# Altium schematic symbol library Schlib1.SchLib: 79 symbols (part 2 of 3)
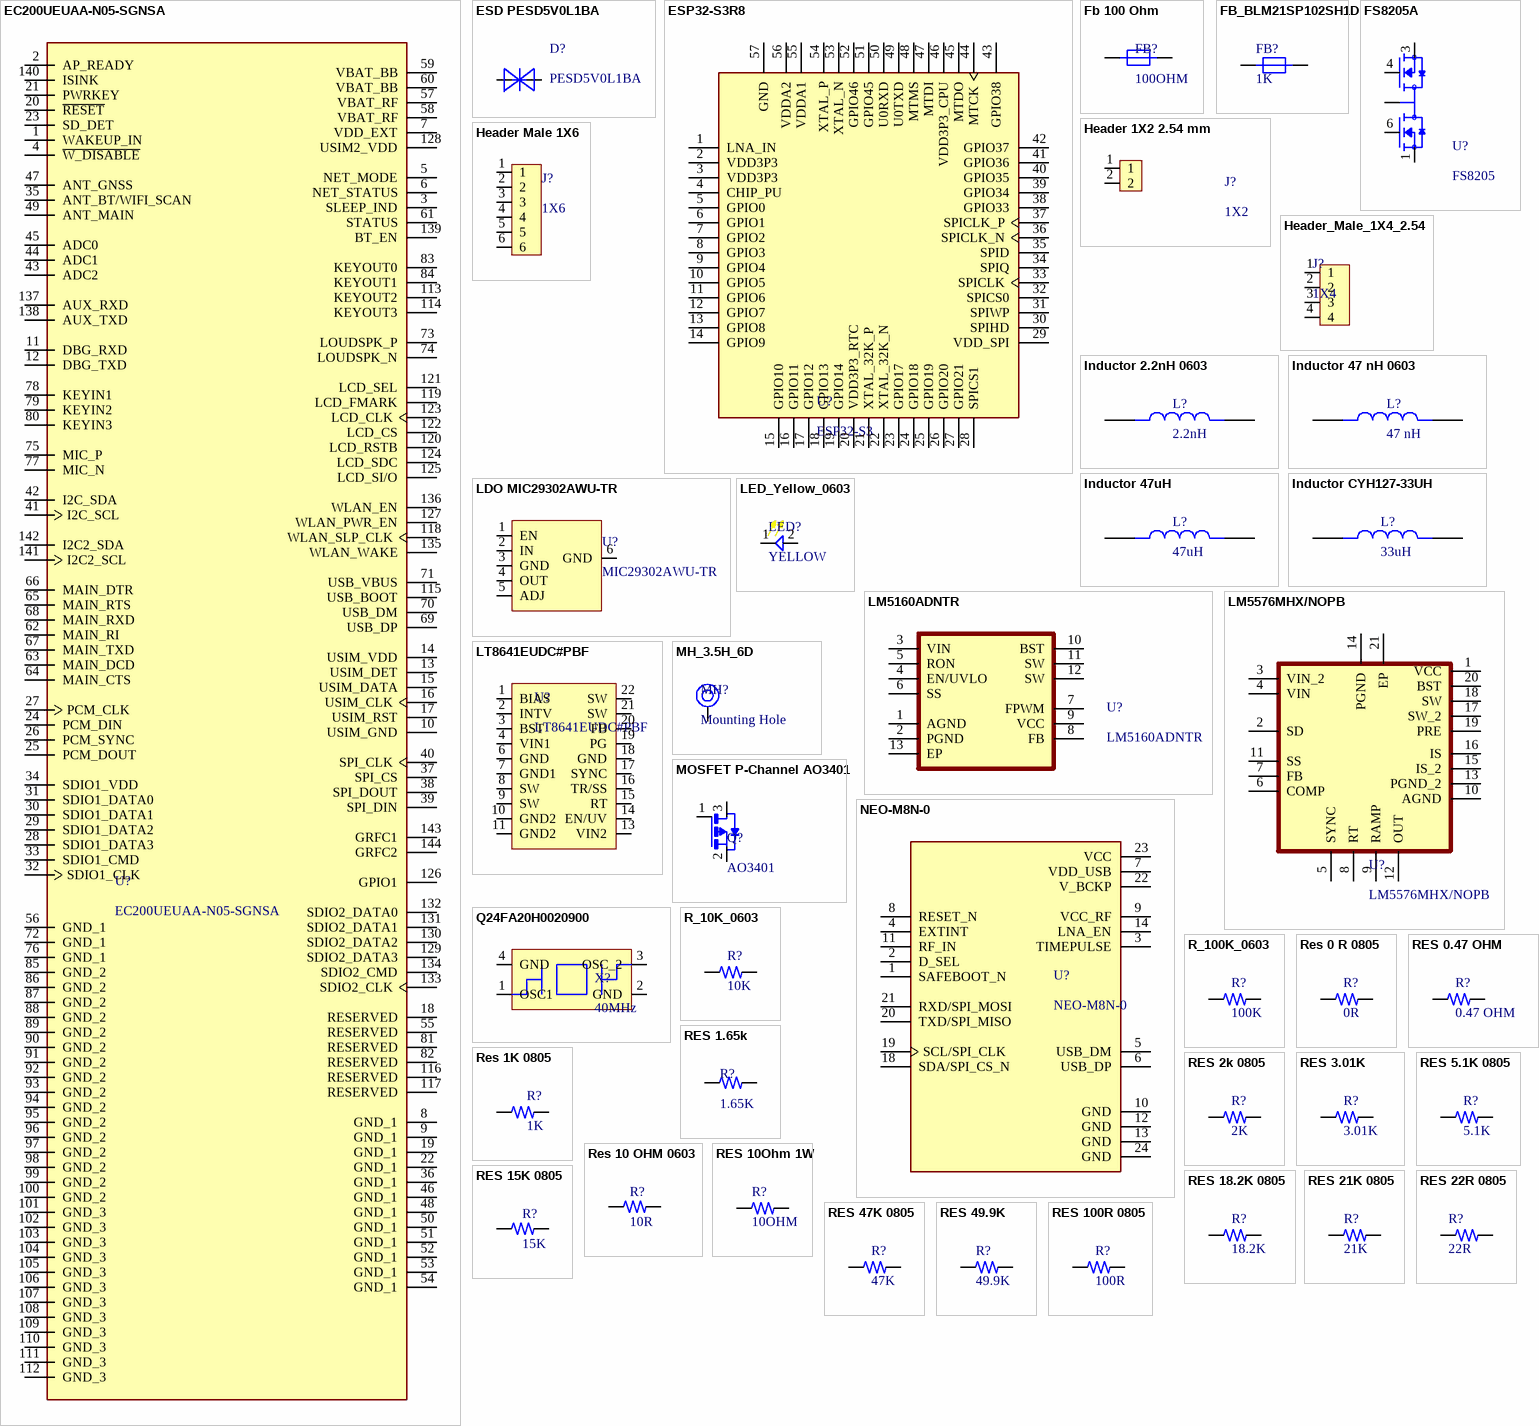
[diagram p3: symbols EC200UEUAA-N05-SGNSA to RES 100R 0805]

## LDO MIC29302AWU-TR
designator U?, comment MIC29302AWU-TR
IC REG LDO ADJ 3A TO263-5; Manufacturer: Microchip; Supplier: Farnell; Supplier Part Number: 2851564RL; Manufacturer Part Number: MIC29302AWU-TR; RoHS: Yes; Category: Voltage Regulators - Linear; Stock: 814; Pricing: 100=1,91, 750=1,87 (EUR); ComponentLink1URL: https://datasheet.ciiva.com/13026/mic29150-13026090.pdf?src-supplier=Mouser; ComponentLink1Description: https://datasheet.ciiva.com/13026/mic29150-13026090.pdf?src-supplier=Mouser; ComponentLink2URL: https://datasheet.ciiva.com/16467/mic29302a-16467068.pdf?src-supplier=Future+Electronics; ComponentLink2Description: https://datasheet.ciiva.com/16467/mic29302a-16467068.pdf?src-supplier=Future+Electronics; ComponentLink3URL: https://datasheet.ciiva.com/2054/mic29302a-2054246.pdf?src-supplier=Digikey; ComponentLink3Description: https://datasheet.ciiva.com/2054/mic29302a-2054246.pdf?src-supplier=Digikey; ComponentLink4URL: https://datasheet.ciiva.com/2054/mic29302a-2054247.pdf?src-supplier=Digikey; ComponentLink4Description: https://datasheet.ciiva.com/2054/mic29302a-2054247.pdf?src-supplier=Digikey; ComponentLink5URL: https://datasheet.ciiva.com/2054/mic29302a-2054248.pdf?src-supplier=Digikey; ComponentLink5Description: https://datasheet.ciiva.com/2054/mic29302a-2054248.pdf?src-supplier=Digikey
footprint TO-263-5
pins: 1 EN, 2 IN, 3 GND, 4 OUT, 5 ADJ, 6 GND

## LED_Yellow_0603
designator LED?, comment YELLOW
TJ-S1608SW6TGLCCW-A5; Manufacturer: Togialed; Supplier: LCSC; Supplier Part Number: C192669; Manufacturer Part Number: TJ-S1608SW6TGLCCW-A5; RoHS: No; Stock: 15460; Pricing: 10=0,0384, 100=0,0311, 300=0,0275, 1000=0,0248, 4000=0,0209, 8000=0,0198 (USD)
footprint LED_YELLOW_0603
pins: 1, 2

## LM5160ADNTR
designator U?
IC REG BCK FLYBCK ISO ADJ 12WSON; Manufacturer: Texas Instruments; Supplier: Mouser; Supplier Part Number: 595-LM5160ADNTR; Manufacturer Part Number: LM5160ADNTR; RoHS: Yes; Category: Voltage Regulators - Switching; Stock: 978; Pricing: 1=2,78, 10=2,08, 50=1,9, 100=1,71, 1000=1,5, 10000=1,35 (USD); ComponentLink1URL: http://www.ti.com/lit/ds/symlink/lm5160a.pdf?src-supplier=Digikey; ComponentLink1Description: http://www.ti.com/lit/ds/symlink/lm5160a.pdf?src-supplier=Digikey; ComponentLink2URL: http://www.ti.com/general/docs/suppproductinfo.tsp?distId=10&amp;gotoUrl=http%3A%2F%2Fwww.ti.com%2Flit%2Fgpn%2Flm5160a&src-supplier=Digikey; ComponentLink2Description: http://www.ti.com/general/docs/suppproductinfo.tsp?distId=10&amp;gotoUrl=http%3A%2F%2Fwww.ti.com%2Flit%2Fgpn%2Flm5160a&src-supplier=Digikey
footprint WSON-12
pins: 1 AGND, 2 PGND, 3 VIN, 4 EN/UVLO, 5 RON, 6 SS, 7 FPWM, 8 FB, 9 VCC, 10 BST, 11 SW, 12 SW, 13 EP

## LM5576MHX/NOPB
designator U?
Buck Switching Regulator IC Positive Adjustable 1.225V 1 Output 3A 20-TSSOP (0.173; Manufacturer: TI National Semiconductor; Supplier: Mouser; Supplier Part Number: 926-LM5576MHX/NOPB; Manufacturer Part Number: LM5576MHX/NOPB; RoHS: Yes; Category: Voltage Regulators - Switching; Stock: 3580; Pricing: 1=3,93, 10=2,97, 50=2,73, 100=2,47, 1000=2,04, 10000=1,95 (USD); ComponentLink1URL: https://datasheet.ciiva.com/41458/001014185-da-01-en-ic-reg-buck-lm5576mhx-nopb-tssop-20-tid-41458496.pdf?src-supplier=Conrad; ComponentLink1Description: https://datasheet.ciiva.com/41458/001014185-da-01-en-ic-reg-buck-lm5576mhx-nopb-tssop-20-tid-41458496.pdf?src-supplier=Conrad; ComponentLink2URL: https://datasheet.ciiva.com/6605/lm5576-6605767.pdf?src-supplier=Digikey; ComponentLink2Description: https://datasheet.ciiva.com/6605/lm5576-6605767.pdf?src-supplier=Digikey; ComponentLink3URL: https://datasheet.ciiva.com/6605/lm5576-6605769.pdf?src-supplier=Digikey; ComponentLink3Description: https://datasheet.ciiva.com/6605/lm5576-6605769.pdf?src-supplier=Digikey; ComponentLink4URL: https://datasheet.ciiva.com/6605/lm5576-6605771.pdf?src-supplier=Digikey; ComponentLink4Description: https://datasheet.ciiva.com/6605/lm5576-6605771.pdf?src-supplier=Digikey; ComponentLink5URL: https://datasheet.ciiva.com/14377/lm5576-14377725.pdf?src-supplier=Avnet; ComponentLink5Description: https://datasheet.ciiva.com/14377/lm5576-14377725.pdf?src-supplier=Avnet
footprint 20-HTSSOP
pins: 1 VCC, 2 SD, 3 VIN_2, 4 VIN, 5 SYNC, 6 COMP, 7 FB, 8 RT, 9 RAMP, 10 AGND, 11 SS, 12 OUT, 13 PGND_2, 14 PGND, 15 IS_2, 16 IS, 17 SW_2, 18 SW, 19 PRE, 20 BST, 21 EP

## LT8641EUDC#PBF
designator U?
IC REG BUCK ADJ 3.5A SYNC 18QFN; Manufacturer: Analog Devices / Linear Technology; Supplier: Mouser; Supplier Part Number: 584-LT8641EUDC#PBF; Manufacturer Part Number: LT8641EUDC#PBF; RoHS: Yes; Category: Voltage Regulators - Switching; Stock: 11446; Pricing: 1=10,06, 10=7,5, 50=7,37, 100=6,48, 1000=6,48, 10000=6,48 (USD); ComponentLink1URL: http://www.farnell.com/datasheets/2030065.pdf?src-supplier=Farnell; ComponentLink1Description: http://www.farnell.com/datasheets/2030065.pdf?src-supplier=Farnell; ComponentLink2URL: http://www.linear.com/docs/43836?src-supplier=Digikey; ComponentLink2Description: http://www.linear.com/docs/43836?src-supplier=Digikey; ComponentLink3URL: https://datasheet.octopart.com/LT8641EUDC%23PBF-Linear-Technology-datasheet-62136649.pdf?src-supplier=Farnell; ComponentLink3Description: https://datasheet.octopart.com/LT8641EUDC%23PBF-Linear-Technology-datasheet-62136649.pdf?src-supplier=Farnell; ComponentLink4URL: http://www.farnell.com/datasheets/2030065.pdf?src-supplier=Element14; ComponentLink4Description: http://www.farnell.com/datasheets/2030065.pdf?src-supplier=Element14; ComponentLink5URL: https://datasheet.octopart.com/LT8641EUDC%23PBF-Analog-Devices-datasheet-157246159.pdf?src-supplier=Element14; ComponentLink5Description: https://datasheet.octopart.com/LT8641EUDC%23PBF-Analog-Devices-datasheet-157246159.pdf?src-supplier=Element14
pins: 1 BIAS, 2 INTV, 3 BST, 4 VIN1, 6 GND, 7 GND1, 8 SW, 9 SW, 10 GND2, 11 GND2, 13 VIN2, 14 EN/UV, 15 RT, 16 TR/SS, 17 SYNC, 18 GND, 19 PG, 20 FB, 21 SW, 22 SW

## MH_3.5H_6D
designator MH?, comment Mounting Hole
Manufacturer Part Number: NA; Case/Package: TH; Manufacturer: NA; Supplier-1: NA; Supplier Part Number-1: NA; Alternate Part Number-1: NA
footprint MOUNTING
pins: 1

## MOSFET P-Channel AO3401
designator Q?, comment AO3401
P-Channel 30 V 4A (Ta) 1.4W (Ta) Surface Mount SOT-23-3; Manufacturer: Alpha & Omega Semiconductor; Manufacturer Part Number: AO3401A; Rds On Max: 44mR; Input Capacitance: 1.2nF; Drain to Source Voltage (Vdss): 30V; Number of Elements: 1; Drain to Source Breakdown Voltage: -30V; Drain to Source Resistance: 41mR; Gate to Source Voltage (Vgs): 12V; Number of Channels: 1NUMBER; Threshold Voltage: -900mV; Turn-Off Delay Time: 41ns; Turn-On Delay Time: 6.5ns; Supplier: Digikey; Supplier Part Number: 785-1001-1-ND; RoHS: Yes; Category: MOSFETs; Stock: 471599; Pricing: 1=0,46, 10=0,282, 100=0,1787, 500=0,1337, 1000=0,11915 (USD); Mounting Technology: Surface Mount; Case/Package: TO-236-3; Pins: 3; Min Operating Temperature: -55°C; Max Operating Temperature: 150°C; Packaging: Cut Tape; Continuous Drain Current (ID): 4A; Max Power Dissipation: 1.4W; Series: -; Power Dissipation: 1.4W; Height: 1.25mm; Radiation Hardening: No; RoHS Compliant: Yes; Lead Free: Lead Free; ComponentLink1URL: https://datasheet.ciiva.com/940/ao3401a-940720.pdf?src-supplier=Digikey; ComponentLink1Description: https://datasheet.ciiva.com/940/ao3401a-940720.pdf?src-supplier=Digikey; ComponentLink2URL: https://datasheet.ciiva.com/26927/getdatasheetpartid-79048-26927888.pdf?src-supplier=Verical; ComponentLink2Description: https://datasheet.ciiva.com/26927/getdatasheetpartid-79048-26927888.pdf?src-supplier=Verical
footprint SOT23
pins: 1 G, 2 S, 3 D

## NEO-M8N-0
designator U?
NEO-M8 Series 3.6 V -166 dBm Surface Mount u-blox M8 Concurrent GNSS Module; Interface: I2C,SPI,USB,UART; Frequency: 1.575GHz; Sensitivity: -167dBm; Current - Receiving: 21mA; Supplier: Digikey; Supplier Part Number: 672-NEO-M8N-0CT-ND; Manufacturer: u-blox; Manufacturer Part Number: NEO-M8N-0; RoHS: Yes; Category: RF Receivers, Transceivers; Stock: 486; Pricing: 1=31,5, 10=31,43, 50=25,8102, 100=25,2297 (USD); Case/Package: SMD/SMT; Min Operating Temperature: -40°C; Max Operating Temperature: 85°C; Packaging: Cut Tape; Series: NEO-M8; RoHS Compliant: Yes; ComponentLink1URL: https://datasheet.octopart.com/NEO-M8N-0-u-blox-datasheet-138104316.pdf?src-supplier=Future+Electronics; ComponentLink1Description: https://datasheet.octopart.com/NEO-M8N-0-u-blox-datasheet-138104316.pdf?src-supplier=Future+Electronics; ComponentLink2URL: https://www.u-blox.com/sites/default/files/products/documents/NEO-M8-FW3_ProductSummary_%28UBX-16000345%29.pdf?src-supplier=Digikey; ComponentLink2Description: https://www.u-blox.com/sites/default/files/products/documents/NEO-M8-FW3_ProductSummary_%28UBX-16000345%29.pdf?src-supplier=Digikey; ComponentLink3URL: https://www.u-blox.com/sites/default/files/NEO-M8-FW3_DataSheet_%28UBX-15031086%29.pdf?src-supplier=Digikey; ComponentLink3Description: https://www.u-blox.com/sites/default/files/NEO-M8-FW3_DataSheet_%28UBX-15031086%29.pdf?src-supplier=Digikey; ComponentLink4URL: https://datasheet.octopart.com/NEO-M8N-0-u-blox-datasheet-166811445.pdf?src-supplier=TME; ComponentLink4Description: https://datasheet.octopart.com/NEO-M8N-0-u-blox-datasheet-166811445.pdf?src-supplier=TME
footprint NEO-M8N-0
pins: 1 SAFEBOOT_N, 2 D_SEL, 3 TIMEPULSE, 4 EXTINT, 5 USB_DM, 6 USB_DP, 7 VDD_USB, 8 RESET_N, 9 VCC_RF, 10 GND, 11 RF_IN, 12 GND, 13 GND, 14 LNA_EN, 18 SDA/SPI_CS_N, 19 SCL/SPI_CLK, 20 TXD/SPI_MISO, 21 RXD/SPI_MOSI, 22 V_BCKP, 23 VCC, 24 GND

## Q24FA20H0020900
designator X?, comment 40MHz
Manufacturer: Seiko; Manufacturer Part Number: Q24FA20H0020900; Supplier: LCSC; Supplier Part Number: C255973; RoHS: No
footprint SMD2520-4P
pins: 1 OSC1, 2 GND, 3 OSC_2, 4 GND

## R_10K_0603
designator R?, comment 10K
SMD Chip Resistor, 10 kOhm, ï¿½ 1%, 100 mW, 0603 [1608 Metric], Thick Film, General Purpose; Manufacturer: Yageo; Manufacturer Part Number: RC0603FR-0710KL; Voltage Rating (DC): 50V; Value: 10kR; Temperature Coefficient: 100ppm/°C; Voltage Rating: 75V; Power Rating: 100mW; Supplier: Digikey; Supplier Part Number: 311-10.0KHRCT-ND; RoHS: Yes; Category: Chip SMD Resistors; Stock: 2808060; Pricing: 1=0,1, 10=0,009, 100=0,0071, 1000=0,00612 (USD); Case/Package: 0603; Pins: 2; Case Code (Imperial): 0603; Case Code (Metric): 1608; Weight: 7.1E-05oz; Min Operating Temperature: -55°C; Max Operating Temperature: 155°C; Tolerance: 1%; Resistor Type: Thick Film; Packaging: Tape and Reel; Termination: SMD/SMT; Features: Moisture Resistant; Series: RC; Max Power Dissipation: 100mW; Number of Terminations: 2; Resistance Tolerance: 1%; Construction: Rectangular; Length: 1.6mm; Width: 0.8mm; Height: 0.45mm; Depth: 0.8mm; Lead Pitch: 0.3mm; Reach SVHC Compliant: No; Lead Free: 5697LeadFree; RoHS Compliant: Yes; Military Standard: Not; ComponentLink1URL: https://datasheet.ciiva.com/7660/38590-7660789.pdf?src-supplier=Element14; ComponentLink1Description: https://datasheet.ciiva.com/7660/38590-7660789.pdf?src-supplier=Element14; ComponentLink2URL: https://datasheet.ciiva.com/7983/443971-7983596.pdf?src-supplier=Element14; ComponentLink2Description: https://datasheet.ciiva.com/7983/443971-7983596.pdf?src-supplier=Element14; ComponentLink3URL: https://datasheet.ciiva.com/22747/443971-22747519.pdf?src-supplier=Element14; ComponentLink3Description: https://datasheet.ciiva.com/22747/443971-22747519.pdf?src-supplier=Element14; ComponentLink4URL: https://datasheet.ciiva.com/46440/1868787-46440891.pdf?src-supplier=Element14; ComponentLink4Description: https://datasheet.ciiva.com/46440/1868787-46440891.pdf?src-supplier=Element14; ComponentLink5URL: https://datasheet.ciiva.com/7746/1738695-7746239.pdf?src-supplier=Element14; ComponentLink5Description: https://datasheet.ciiva.com/7746/1738695-7746239.pdf?src-supplier=Element14; ComponentLink6URL: https://datasheet.ciiva.com/15189/getdatasheetpartid-409289-15189591.pdf?src-supplier=Verical; ComponentLink6Description: https://datasheet.ciiva.com/15189/getdatasheetpartid-409289-15189591.pdf?src-supplier=Verical
footprint Resistor_0603
pins: 1, 2

## R_100K_0603
designator R?, comment 100K
Res Thick Film 0603 100K Ohm 1% 0.1W(1/10W) ±100ppm/C Pad SMD Automotive T/R; Manufacturer: Stackpole Electronics; Manufacturer Part Number: RMCF0603FT100K; Value: 100kR; Max Power Dissipation: 100mW; Temperature Coefficient: 100ppm/°C; Voltage Rating: 75V; Supplier: Digikey; Supplier Part Number: RMCF0603FT100KCT-ND; RoHS: Yes; Category: Chip SMD Resistors; Stock: 722640; Pricing: 1=0,1, 10=0,02, 100=0,0091, 1000=0,0048, 2500=0,00386 (USD); Mounting Technology: Surface Mount; Case/Package: 0603; Case Code (Metric): 1608; Case Code (Imperial): 0603; Contact Plating: Tin,Matte; Min Operating Temperature: -55°C; Max Operating Temperature: 155°C; Tolerance: 1%; Packaging: Tape and Reel; Number of Terminations: 2; Features: Automotive AEC-Q200; Series: RMCF; Construction: Rectangular; Length: 1.55mm; Width: 0.031inch; Height: 0.022inch; Depth: 0.8mm; Radiation Hardening: No; Military Standard: Not; RoHS Compliant: Yes; Lead Free: 5697LeadFree; ComponentLink1URL: https://datasheet.ciiva.com/15193/getdatasheetpartid-362597-15193437.pdf?src-supplier=Verical; ComponentLink1Description: https://datasheet.ciiva.com/15193/getdatasheetpartid-362597-15193437.pdf?src-supplier=Verical
footprint Resistor_0603
pins: 1, 2

## Res 0 R 0805
designator R?, comment 0R
GENERAL PURPOSE CHIP RESISTOR Metal Glaze/thick Film, 0.125W, 0ohm, Surface Mount, 0805; Manufacturer: Yageo; Manufacturer Part Number: RC0805JR-070RL; Value: 0mR; Tolerance: 5%; Voltage Rating: 150V; Power Rating: 125mW; Temperature Coefficient: 200ppm/°C; Supplier: Digikey; Supplier Part Number: 311-0.0ARCT-ND; RoHS: Yes; Category: Chip SMD Resistors; Stock: 947133; Pricing: 1=0,1, 10=0,015, 25=0,0128, 50=0,011, 100=0,0097, 250=0,00812, 500=0,00716, 1000=0,00633 (USD); Case/Package: 0805; Pins: 2; Case Code (Imperial): 0805; Case Code (Metric): 2012; Contact Plating: Tin,Matte; Min Operating Temperature: -55°C; Max Operating Temperature: 155°C; Packaging: Tape and Reel; Series: RC; Voltage Rating (DC): 150V; Termination: SMD/SMT; Resistor Type: Thick Film; Features: Moisture Resistant; Max Power Dissipation: 125mW; Number of Terminations: 2; Construction: Rectangular; Technology: THICK FILM; Resistance Tolerance: 5%; Length: 2mm; Width: 1.25mm; Height: 0.5mm; Depth: 1.25mm; RoHS Compliant: Yes; Military Standard: Not; Reach SVHC Compliant: Unknown; Lead Free: 5697LeadFree; ComponentLink1URL: https://datasheet.ciiva.com/11819/0900766b8106beab-11819430.pdf?src-supplier=Rs; ComponentLink1Description: https://datasheet.ciiva.com/11819/0900766b8106beab-11819430.pdf?src-supplier=Rs; ComponentLink2URL: https://datasheet.ciiva.com/7941/1738694-7941861.pdf?src-supplier=Element14; ComponentLink2Description: https://datasheet.ciiva.com/7941/1738694-7941861.pdf?src-supplier=Element14; ComponentLink3URL: https://datasheet.ciiva.com/7941/1738694-7941862.pdf?src-supplier=Element14; ComponentLink3Description: https://datasheet.ciiva.com/7941/1738694-7941862.pdf?src-supplier=Element14; ComponentLink4URL: https://datasheet.ciiva.com/7941/1738694-7941863.pdf?src-supplier=Element14; ComponentLink4Description: https://datasheet.ciiva.com/7941/1738694-7941863.pdf?src-supplier=Element14
footprint Resistor_0805
pins: 1, 2

## RES 0.47 OHM
designator R?, comment 0.47 OHM
SMD Chip Resistor, 470 Milliohm, ± 5%, 500 mW, 0805 [2012 Metric], Thick Film, High Power; Manufacturer: Panasonic; Manufacturer Part Number: ERJ-6DQJR47V; Value: 470mR; Max Power Dissipation: 500mW; Temperature Coefficient: 100ppm/°C; Supplier: Mouser; Supplier Part Number: 667-ERJ-6DQJR47V; RoHS: Yes; Category: Chip SMD Resistors; Stock: 28103; Pricing: 1=0,14, 10=0,067, 50=0,067, 100=0,051, 1000=0,039, 10000=0,026 (USD); Case/Package: 0805; Case Code (Metric): 2012; Case Code (Imperial): 0805; Min Operating Temperature: -55°C; Max Operating Temperature: 155°C; Packaging: Cut Tape; Number of Terminations: 2; Tolerance: 5%; Features: Automotive AEC-Q200; Series: ERJ; Ratings: AEC-Q200; ComponentLink1URL: https://industrial.panasonic.com/cdbs/www-data/pdf/RDN0000/AOA0000C313.pdf?src-supplier=Digikey; ComponentLink1Description: https://industrial.panasonic.com/cdbs/www-data/pdf/RDN0000/AOA0000C313.pdf?src-supplier=Digikey
footprint Resistor_0805
pins: 1, 2

## RES 1.65k
designator R?, comment 1.65K
Res Thin Film 0805 1.65K Ohm 0.1% 1/8W ±25ppm/°C Molded SMD Paper T/R; Manufacturer: Yageo; Manufacturer Part Number: RT0805BRD071K65L; Value: 1.65kR; Power Rating: 125mW; Voltage Rating: 150V; Supplier: Digikey; Supplier Part Number: YAG4849CT-ND; RoHS: Yes; Category: Chip SMD Resistors; Stock: 7586; Pricing: 1=0,16, 10=0,123, 50=0,099, 100=0,0887, 500=0,06834, 1000=0,06018 (USD); Case/Package: 0805; Case Code (Metric): 2012; Case Code (Imperial): 0805; Min Operating Temperature: -55°C; Max Operating Temperature: 125°C; Package Quantity: 5000; Packaging: Tape and Reel; Tolerance: 0.1%; Number of Terminations: 2; Termination: SMD/SMT; Max Power Dissipation: 125mW; Temperature Coefficient: 25ppm/°C; Voltage Rating (DC): 150V; Series: RT; Length: 0.079inch; Width: 0.049inch; Height: 0.024inch; Lead Free: Lead Free; RoHS Compliant: Yes; ComponentLink1URL: https://datasheet.ciiva.com/2584/pyu-rt-1-to-0-05-rohs-l-5-2584818.pdf?src-supplier=Digikey; ComponentLink1Description: https://datasheet.ciiva.com/2584/pyu-rt-1-to-0-05-rohs-l-5-2584818.pdf?src-supplier=Digikey; ComponentLink2URL: https://datasheet.ciiva.com/12706/pyu-rt-1-to-0-05-rohs-l-4-12706491.pdf?src-supplier=Mouser; ComponentLink2Description: https://datasheet.ciiva.com/12706/pyu-rt-1-to-0-05-rohs-l-4-12706491.pdf?src-supplier=Mouser
footprint Resistor_0805
pins: 1, 2

## Res 1K 0805
designator R?, comment 1K
125Mw Thick Film Resistors 100Ppm/ 1% 1K 0805 Chip Resistor Surface Mount Rohs; Manufacturer: Yageo; Manufacturer Part Number: RC0805FR-071KL; Value: 1kR; Voltage Rating (DC): 150V; Temperature Coefficient: 100ppm/°C; Supplier: Avnet; Supplier Part Number: 82K7536; RoHS: Yes; Category: Chip SMD Resistors; Stock: 255910; Pricing: 10=0,014, 25=0,012, 50=0,01, 100=0,009 (USD); Case/Package: 0805; Pins: 2; Case Code (Metric): 2012; Case Code (Imperial): 0805; Min Operating Temperature: -55°C; Max Operating Temperature: 155°C; Tolerance: 1%; Packaging: Tape and Reel; Resistor Type: Thick Film; Package Quantity: 1; Voltage Rating: 150V; Termination: SMD/SMT; Series: RC; Power Rating: 125mW; Number of Terminations: 2; Max Power Dissipation: 125mW; Features: Moisture Resistant; Resistance Tolerance: 1%; Construction: Rectangular; Voltage Rating (AC): 150V; Length: 0.079inch; Width: 0.049inch; Height: 0.024inch; Depth: 1.25mm; Reach SVHC Compliant: No; Lead Free: Lead Free; RoHS Compliant: Yes; Military Standard: Not; ComponentLink1URL: https://datasheet.ciiva.com/7941/1686128-7941719.pdf?src-supplier=Element14; ComponentLink1Description: https://datasheet.ciiva.com/7941/1686128-7941719.pdf?src-supplier=Element14; ComponentLink2URL: https://datasheet.ciiva.com/46385/444164-46385020.pdf?src-supplier=Element14; ComponentLink2Description: https://datasheet.ciiva.com/46385/444164-46385020.pdf?src-supplier=Element14; ComponentLink3URL: https://datasheet.ciiva.com/2456/pyu-r-int-thick-7-2456976.pdf?src-supplier=Digikey; ComponentLink3Description: https://datasheet.ciiva.com/2456/pyu-r-int-thick-7-2456976.pdf?src-supplier=Digikey; ComponentLink4URL: https://datasheet.ciiva.com/2456/pyu-r-int-thick-7-2456977.pdf?src-supplier=Digikey; ComponentLink4Description: https://datasheet.ciiva.com/2456/pyu-r-int-thick-7-2456977.pdf?src-supplier=Digikey; ComponentLink5URL: https://datasheet.ciiva.com/2456/pyu-r-int-thick-7-2456975.pdf?src-supplier=Digikey; ComponentLink5Description: https://datasheet.ciiva.com/2456/pyu-r-int-thick-7-2456975.pdf?src-supplier=Digikey; ComponentLink6URL: https://datasheet.ciiva.com/16850/rc0805-16850409.pdf?src-supplier=Future+Electronics; ComponentLink6Description: https://datasheet.ciiva.com/16850/rc0805-16850409.pdf?src-supplier=Future+Electronics
footprint Resistor_0805
pins: 1, 2

## RES 2k 0805
designator R?, comment 2K
Res Thin Film 0805 2K Ohm 0.1% 0.125W ±25ppm/°C Molded SMD Punched Carrier T/R; Manufacturer: Panasonic; Manufacturer Part Number: ERA-6AEB202V; Voltage Rating (DC): 100V; Supplier: Mouser; Supplier Part Number: 667-ERA-6AEB202V; RoHS: Yes; Category: Chip SMD Resistors; Stock: 42056; Pricing: 1=0,1, 10=0,058, 50=0,058, 100=0,055, 1000=0,046, 10000=0,035 (USD); Lead Free: 5697LeadFree; ComponentLink1URL: https://datasheet.ciiva.com/29184/453123-da-01-en-widerstand-0805-era-29184125.pdf?src-supplier=Conrad; ComponentLink1Description: https://datasheet.ciiva.com/29184/453123-da-01-en-widerstand-0805-era-29184125.pdf?src-supplier=Conrad; ComponentLink2URL: https://datasheet.ciiva.com/48536/era-eng-tds-48536621.pdf?src-supplier=Distrelec; ComponentLink2Description: https://datasheet.ciiva.com/48536/era-eng-tds-48536621.pdf?src-supplier=Distrelec; ComponentLink3URL: https://datasheet.ciiva.com/46377/1776116-46377341.pdf?src-supplier=Element14; ComponentLink3Description: https://datasheet.ciiva.com/46377/1776116-46377341.pdf?src-supplier=Element14; ComponentLink4URL: https://datasheet.ciiva.com/28673/485442-28673947.pdf?src-supplier=Element14; ComponentLink4Description: https://datasheet.ciiva.com/28673/485442-28673947.pdf?src-supplier=Element14; ComponentLink5URL: https://datasheet.ciiva.com/16782/70068849-16782361.pdf?src-supplier=Allied+Electronics; ComponentLink5Description: https://datasheet.ciiva.com/16782/70068849-16782361.pdf?src-supplier=Allied+Electronics; ComponentLink6URL: https://datasheet.ciiva.com/48425/era-eng-tds-48425775.pdf?src-supplier=Distrelec; ComponentLink6Description: https://datasheet.ciiva.com/48425/era-eng-tds-48425775.pdf?src-supplier=Distrelec; ComponentLink7URL: https://datasheet.ciiva.com/43455/1776116-43455406.pdf?src-supplier=Farnell; ComponentLink7Description: https://datasheet.ciiva.com/43455/1776116-43455406.pdf?src-supplier=Farnell; ComponentLink8URL: https://datasheet.ciiva.com/9117/aoa0000ce26-9117455.pdf?src-supplier=Avnet; ComponentLink8Description: https://datasheet.ciiva.com/9117/aoa0000ce26-9117455.pdf?src-supplier=Avnet; ComponentLink9URL: https://datasheet.ciiva.com/16771/70068849-16771711.pdf?src-supplier=Allied+Electronics; ComponentLink9Description: https://datasheet.ciiva.com/16771/70068849-16771711.pdf?src-supplier=Allied+Electronics; ComponentLink10URL: https://datasheet.ciiva.com/16500/aoa0000ce26-16500501.pdf?src-supplier=Future+Electronics; ComponentLink10Description: https://datasheet.ciiva.com/16500/aoa0000ce26-16500501.pdf?src-supplier=Future+Electronics; ComponentLink11URL: https://datasheet.ciiva.com/30137/54aoa0000ce26-30137803.pdf?src-supplier=Onlinecomponents.com; ComponentLink11Description: https://datasheet.ciiva.com/30137/54aoa0000ce26-30137803.pdf?src-supplier=Onlinecomponents.com
footprint Resistor_0805
pins: 1, 2

## RES 3.01K
designator R?, comment 3.01K
SMD Chip Resistor, 3.01 kOhm, ï¿½ 1%, 125 mW, 0805 [2012 Metric], Thick Film, General Purpose; Manufacturer: Yageo; Manufacturer Part Number: RC0805FR-073K01L; Voltage Rating (DC): 150V; Supplier: Digikey; Supplier Part Number: 311-3.01KCRCT-ND; RoHS: Yes; Category: Chip SMD Resistors; Stock: 97751; Pricing: 1=0,1, 10=0,014, 100=0,0102, 1000=0,00714 (USD); Lead Free: 5697LeadFree; ComponentLink1URL: https://datasheet.ciiva.com/11809/0900766b8106beab-11809409.pdf?src-supplier=Rs; ComponentLink1Description: https://datasheet.ciiva.com/11809/0900766b8106beab-11809409.pdf?src-supplier=Rs; ComponentLink2URL: https://datasheet.ciiva.com/16747/rc0805-16747033.pdf?src-supplier=Future+Electronics; ComponentLink2Description: https://datasheet.ciiva.com/16747/rc0805-16747033.pdf?src-supplier=Future+Electronics; ComponentLink3URL: https://datasheet.ciiva.com/15189/getdatasheetpartid-323960-15189963.pdf?src-supplier=Verical; ComponentLink3Description: https://datasheet.ciiva.com/15189/getdatasheetpartid-323960-15189963.pdf?src-supplier=Verical; ComponentLink4URL: https://datasheet.ciiva.com/2457/pyu-r-int-thick-7-2457722.pdf?src-supplier=Digikey; ComponentLink4Description: https://datasheet.ciiva.com/2457/pyu-r-int-thick-7-2457722.pdf?src-supplier=Digikey; ComponentLink5URL: https://datasheet.ciiva.com/2457/pyu-r-int-thick-7-2457723.pdf?src-supplier=Digikey; ComponentLink5Description: https://datasheet.ciiva.com/2457/pyu-r-int-thick-7-2457723.pdf?src-supplier=Digikey; ComponentLink6URL: https://datasheet.ciiva.com/12656/rc0805-12656794.pdf?src-supplier=Mouser; ComponentLink6Description: https://datasheet.ciiva.com/12656/rc0805-12656794.pdf?src-supplier=Mouser; ComponentLink7URL: https://datasheet.ciiva.com/2457/pyu-r-int-thick-7-2457724.pdf?src-supplier=Digikey; ComponentLink7Description: https://datasheet.ciiva.com/2457/pyu-r-int-thick-7-2457724.pdf?src-supplier=Digikey
footprint Resistor_0805
pins: 1, 2

## RES 5.1K 0805
designator R?, comment 5.1K
Res Thin Film 0805 5.1K Ohm 0.1% 1/8W ±10ppm/°C Molded SMD Paper T/R; Manufacturer: Yageo; Manufacturer Part Number: RT0805BRD075K1L; Value: 5.1kR; Power Rating: 125mW; Voltage Rating: 150V; Temperature Coefficient: 25ppm/°C; Supplier: Digikey; Supplier Part Number: YAG1938CT-ND; RoHS: Yes; Category: Chip SMD Resistors; Stock: 24867; Pricing: 1=0,14, 10=0,099, 50=0,0918, 100=0,0826, 500=0,06324, 1000=0,05712 (USD); Case/Package: 0805; Case Code (Metric): 2012; Case Code (Imperial): 0805; Weight: 0.000194oz; Min Operating Temperature: -55°C; Max Operating Temperature: 155°C; Package Quantity: 5000; Packaging: Tape and Reel; Number of Terminations: 2; Termination: SMD/SMT; Max Power Dissipation: 125mW; Voltage Rating (DC): 150V; Features: Moisture Resistant; Series: RT; Length: 0.079inch; Width: 1.25mm; Height: 0.024inch; Lead Free: Lead Free; RoHS Compliant: Yes; ComponentLink1URL: https://datasheet.ciiva.com/12810/pyu-rt-1-to-0-05-rohs-l-4-12810709.pdf?src-supplier=Mouser; ComponentLink1Description: https://datasheet.ciiva.com/12810/pyu-rt-1-to-0-05-rohs-l-4-12810709.pdf?src-supplier=Mouser; ComponentLink2URL: https://datasheet.ciiva.com/2585/pyu-rt-1-to-0-05-rohs-l-4-2585107.pdf?src-supplier=Digikey; ComponentLink2Description: https://datasheet.ciiva.com/2585/pyu-rt-1-to-0-05-rohs-l-4-2585107.pdf?src-supplier=Digikey; ComponentLink3URL: https://datasheet.ciiva.com/46635/pyu-rt-1-to-0-05-rohs-l-5-46635340.pdf?src-supplier=Digikey; ComponentLink3Description: https://datasheet.ciiva.com/46635/pyu-rt-1-to-0-05-rohs-l-5-46635340.pdf?src-supplier=Digikey
footprint Resistor_0805
pins: 1, 2

## Res 10 OHM 0603
designator R?, comment 10R
Res Thick Film 0603 10 Ohm 1% 0.1W(1/10W) ±200ppm/C Pad SMD T/R; Manufacturer: Yageo; Manufacturer Part Number: RC0603FR-0710RL; Temperature Coefficient: 200ppm/°C; Power Rating: 100mW; Voltage Rating: 50V; Supplier: Avnet; Supplier Part Number: RC0603FR-0710RL; RoHS: Yes; Category: Chip SMD Resistors; Stock: 1840000; Pricing: 5000=0,00309, 10000=0,00304, 20000=0,003, 30000=0,00295, 40000=0,0029 (USD); Case/Package: 0603; Pins: 2; Contact Plating: Tin,Matte; Case Code (Imperial): 0603; Case Code (Metric): 1608; Min Operating Temperature: -55°C; Max Operating Temperature: 155°C; Value: 10R; Tolerance: 1%; Resistor Type: Thick Film; Packaging: Tape and Reel; Voltage Rating (DC): 50V; Termination: SMD/SMT; Features: Moisture Resistant; Series: RC; Max Power Dissipation: 100mW; Number of Terminations: 2; Resistance Tolerance: 1%; Construction: Rectangular; Technology: THICK FILM; Length: 1.6mm; Width: 0.8mm; Height: 0.45mm; Depth: 0.8mm; Reach SVHC Compliant: No; Military Standard: Not; RoHS Compliant: Yes; Lead Free: 5697LeadFree; ComponentLink1URL: https://datasheet.ciiva.com/11808/0900766b80f96399-11808140.pdf?src-supplier=Rs; ComponentLink1Description: https://datasheet.ciiva.com/11808/0900766b80f96399-11808140.pdf?src-supplier=Rs; ComponentLink2URL: https://datasheet.ciiva.com/7746/443971-7746245.pdf?src-supplier=Element14; ComponentLink2Description: https://datasheet.ciiva.com/7746/443971-7746245.pdf?src-supplier=Element14; ComponentLink3URL: https://datasheet.ciiva.com/8891/pyu-rc0603-51-rohs-l-4-8891285.pdf?src-supplier=Avnet; ComponentLink3Description: https://datasheet.ciiva.com/8891/pyu-rc0603-51-rohs-l-4-8891285.pdf?src-supplier=Avnet
footprint Resistor_0603
pins: 1, 2

## RES 10Ohm 1W
designator R?, comment 10OHM
SMD Chip Resistor, 10 Ohm, ï¿½ 5%, 1 W, 2512 [6332 Metric], Thick Film, General Purpose; Manufacturer: Yageo; Manufacturer Part Number: RC2512JK-0710RL; Supplier: Digikey; Supplier Part Number: YAG3395CT-ND; RoHS: Yes; Category: Chip SMD Resistors; Stock: 5574; Pricing: 1=0,24, 10=0,139, 50=0,1306, 100=0,1132, 500=0,09588, 1000=0,08466 (USD); Lead Free: 5697LeadFree; ComponentLink1URL: https://datasheet.ciiva.com/7672/638316-7672037.pdf?src-supplier=Element14; ComponentLink1Description: https://datasheet.ciiva.com/7672/638316-7672037.pdf?src-supplier=Element14; ComponentLink2URL: https://datasheet.ciiva.com/17195/pyu-rc2512-51-rohs-l-4-17195641.pdf?src-supplier=Future+Electronics; ComponentLink2Description: https://datasheet.ciiva.com/17195/pyu-rc2512-51-rohs-l-4-17195641.pdf?src-supplier=Future+Electronics
footprint Resistor_2512
pins: 1, 2

## RES 15K 0805
designator R?, comment 15K
125Mw Thick Film Resistors 100Ppm/ 1% 15K 0805 Chip Resistor Surface Mount Rohs; Manufacturer: Yageo; Manufacturer Part Number: RC0805FR-0715KL; Value: 15kR; Voltage Rating: 150V; Temperature Coefficient: 100ppm/°C; Supplier: Avnet; Supplier Part Number: RC0805FR-0715KL; RoHS: Yes; Category: Chip SMD Resistors; Stock: 15000; Pricing: 5000=0,00212, 10000=0,00209, 20000=0,00206, 30000=0,00203, 40000=0,00199 (USD); Case/Package: 0805; Case Code (Metric): 2012; Case Code (Imperial): 0805; Weight: 0.000194oz; Min Operating Temperature: -55°C; Max Operating Temperature: 155°C; Packaging: Tape and Reel; Tolerance: 1%; Package Quantity: 1; Resistor Type: Thick Film; Termination: SMD/SMT; Series: RC; Power Rating: 125mW; Number of Terminations: 2; Max Power Dissipation: 125mW; Features: Moisture Resistant; Construction: Rectangular; Resistance Tolerance: 1%; Voltage Rating (AC): 150V; Length: 2mm; Width: 0.049inch; Height: 0.024inch; Depth: 1.25mm; Reach SVHC Compliant: No; RoHS Compliant: Yes; Lead Free: 5697LeadFree; Military Standard: Not; ComponentLink1URL: https://datasheet.ciiva.com/46412/444164-46412861.pdf?src-supplier=Element14; ComponentLink1Description: https://datasheet.ciiva.com/46412/444164-46412861.pdf?src-supplier=Element14; ComponentLink2URL: https://datasheet.ciiva.com/46447/444164-46447567.pdf?src-supplier=Element14; ComponentLink2Description: https://datasheet.ciiva.com/46447/444164-46447567.pdf?src-supplier=Element14; ComponentLink3URL: https://datasheet.ciiva.com/2457/pyu-r-int-thick-7-2457069.pdf?src-supplier=Digikey; ComponentLink3Description: https://datasheet.ciiva.com/2457/pyu-r-int-thick-7-2457069.pdf?src-supplier=Digikey; ComponentLink4URL: https://datasheet.ciiva.com/2457/pyu-r-int-thick-7-2457070.pdf?src-supplier=Digikey; ComponentLink4Description: https://datasheet.ciiva.com/2457/pyu-r-int-thick-7-2457070.pdf?src-supplier=Digikey; ComponentLink5URL: https://datasheet.ciiva.com/2457/pyu-r-int-thick-7-2457068.pdf?src-supplier=Digikey; ComponentLink5Description: https://datasheet.ciiva.com/2457/pyu-r-int-thick-7-2457068.pdf?src-supplier=Digikey; ComponentLink6URL: https://datasheet.ciiva.com/12577/rc0805-12577708.pdf?src-supplier=Mouser; ComponentLink6Description: https://datasheet.ciiva.com/12577/rc0805-12577708.pdf?src-supplier=Mouser
footprint Resistor_0805
pins: 1, 2

## RES 18.2K 0805
designator R?, comment 18.2K
SMD Chip Resistor, 18.2 kOhm, ± 1%, 125 mW, 0805 [2012 Metric], Thick Film, General Purpose; Manufacturer: Yageo; Manufacturer Part Number: RC0805FR-0718K2L; Voltage Rating (DC): 150V; Supplier: Digikey; Supplier Part Number: 311-18.2KCRCT-ND; RoHS: Yes; Category: Chip SMD Resistors; Stock: 226161; Pricing: 1=0,1, 10=0,009, 100=0,0082, 1000=0,00714 (USD); Lead Free: 5697LeadFree; ComponentLink1URL: https://datasheet.ciiva.com/12577/rc0805-12577261.pdf?src-supplier=Mouser; ComponentLink1Description: https://datasheet.ciiva.com/12577/rc0805-12577261.pdf?src-supplier=Mouser; ComponentLink2URL: https://datasheet.ciiva.com/16741/rc0805-16741463.pdf?src-supplier=Future+Electronics; ComponentLink2Description: https://datasheet.ciiva.com/16741/rc0805-16741463.pdf?src-supplier=Future+Electronics
footprint Resistor_0805
pins: 1, 2

## RES 21K 0805
designator R?, comment 21K
Res Thick Film 0805 21K Ohm 1% 0.125W(1/8W) ±100ppm/C Pad SMD T/R; Manufacturer: Yageo; Manufacturer Part Number: RC0805FR-0721KL; Supplier: Digikey; Supplier Part Number: 311-21.0KCRCT-ND; RoHS: Yes; Category: Chip SMD Resistors; Stock: 210016; Pricing: 1=0,1, 10=0,011, 100=0,0092, 1000=0,00714, 2500=0,00686 (USD); ComponentLink1URL: https://datasheet.ciiva.com/12558/rc0805-257173-12558585.pdf?src-supplier=Mouser; ComponentLink1Description: https://datasheet.ciiva.com/12558/rc0805-257173-12558585.pdf?src-supplier=Mouser; ComponentLink2URL: https://datasheet.ciiva.com/2519/pyu-r-int-thick-7-2519839.pdf?src-supplier=Digikey; ComponentLink2Description: https://datasheet.ciiva.com/2519/pyu-r-int-thick-7-2519839.pdf?src-supplier=Digikey; ComponentLink3URL: https://datasheet.ciiva.com/2519/pyu-r-int-thick-7-2519837.pdf?src-supplier=Digikey; ComponentLink3Description: https://datasheet.ciiva.com/2519/pyu-r-int-thick-7-2519837.pdf?src-supplier=Digikey; ComponentLink4URL: https://datasheet.ciiva.com/2519/pyu-r-int-thick-7-2519838.pdf?src-supplier=Digikey; ComponentLink4Description: https://datasheet.ciiva.com/2519/pyu-r-int-thick-7-2519838.pdf?src-supplier=Digikey; ComponentLink5URL: https://datasheet.ciiva.com/16742/rc0805-16742250.pdf?src-supplier=Future+Electronics; ComponentLink5Description: https://datasheet.ciiva.com/16742/rc0805-16742250.pdf?src-supplier=Future+Electronics
footprint Resistor_0805
pins: 1, 2

## RES 22R 0805
designator R?, comment 22R
SMD Chip Resistor, 22 Ohm, ± 1%, 125 mW, 0805 [2012 Metric], Thick Film, General Purpose; Manufacturer: Yageo; Manufacturer Part Number: RC0805FR-0722RL; Voltage Rating (AC): 150V; Supplier: Digikey; Supplier Part Number: 311-22.0CRCT-ND; RoHS: Yes; Category: Chip SMD Resistors; Stock: 246607; Pricing: 1=0,1, 10=0,012, 100=0,0112, 1000=0,00918 (USD); Lead Free: 5697LeadFree; ComponentLink1URL: https://datasheet.ciiva.com/11819/0900766b8106beab-11819837.pdf?src-supplier=Rs; ComponentLink1Description: https://datasheet.ciiva.com/11819/0900766b8106beab-11819837.pdf?src-supplier=Rs; ComponentLink2URL: https://datasheet.ciiva.com/2457/pyu-r-int-thick-7-2457045.pdf?src-supplier=Digikey; ComponentLink2Description: https://datasheet.ciiva.com/2457/pyu-r-int-thick-7-2457045.pdf?src-supplier=Digikey; ComponentLink3URL: https://datasheet.ciiva.com/2457/pyu-r-int-thick-7-2457046.pdf?src-supplier=Digikey; ComponentLink3Description: https://datasheet.ciiva.com/2457/pyu-r-int-thick-7-2457046.pdf?src-supplier=Digikey; ComponentLink4URL: https://datasheet.ciiva.com/12667/rc0805-12667371.pdf?src-supplier=Mouser; ComponentLink4Description: https://datasheet.ciiva.com/12667/rc0805-12667371.pdf?src-supplier=Mouser; ComponentLink5URL: https://datasheet.ciiva.com/2457/pyu-r-int-thick-7-2457044.pdf?src-supplier=Digikey; ComponentLink5Description: https://datasheet.ciiva.com/2457/pyu-r-int-thick-7-2457044.pdf?src-supplier=Digikey; ComponentLink6URL: https://datasheet.ciiva.com/46447/444164-46447574.pdf?src-supplier=Element14; ComponentLink6Description: https://datasheet.ciiva.com/46447/444164-46447574.pdf?src-supplier=Element14
footprint Resistor_0805
pins: 1, 2

## RES 47K 0805
designator R?, comment 47K
125Mw Thick Film Resistors 100Ppm/ 1% 47K 0805 Chip Resistor Surface Mount Rohs; Manufacturer: Yageo; Manufacturer Part Number: RC0805FR-0747KL; Value: 47kR; Temperature Coefficient: 100ppm/°C; Voltage Rating (DC): 150V; Supplier: Avnet; Supplier Part Number: RC0805FR-0747KL; RoHS: Yes; Category: Chip SMD Resistors; Stock: 70000; Pricing: 5000=0,00212, 10000=0,00209, 20000=0,00206, 30000=0,00203, 40000=0,00202 (USD); Case/Package: 0805; Pins: 2; Contact Plating: Tin,Matte; Case Code (Imperial): 0805; Case Code (Metric): 2012; Min Operating Temperature: -55°C; Max Operating Temperature: 155°C; Tolerance: 1%; Packaging: Tape and Reel; Resistor Type: Thick Film; Termination: SMD/SMT; Series: RC; Voltage Rating: 150V; Power Rating: 125mW; Features: Moisture Resistant; Max Power Dissipation: 125mW; Number of Terminations: 2; Resistance Tolerance: 1%; Voltage Rating (AC): 150V; Working Voltage: 150V; Length: 2mm; Width: 1.25mm; Height: 0.5mm; Reach SVHC Compliant: Unknown; RoHS Compliant: Yes; Lead Free: 5697LeadFree; ComponentLink1URL: https://datasheet.ciiva.com/7941/1686128-7941799.pdf?src-supplier=Element14; ComponentLink1Description: https://datasheet.ciiva.com/7941/1686128-7941799.pdf?src-supplier=Element14; ComponentLink2URL: https://datasheet.ciiva.com/46447/444164-46447581.pdf?src-supplier=Element14; ComponentLink2Description: https://datasheet.ciiva.com/46447/444164-46447581.pdf?src-supplier=Element14; ComponentLink3URL: https://datasheet.ciiva.com/7941/444164-7941800.pdf?src-supplier=Element14; ComponentLink3Description: https://datasheet.ciiva.com/7941/444164-7941800.pdf?src-supplier=Element14; ComponentLink4URL: https://datasheet.ciiva.com/7941/444164-7941801.pdf?src-supplier=Element14; ComponentLink4Description: https://datasheet.ciiva.com/7941/444164-7941801.pdf?src-supplier=Element14; ComponentLink5URL: https://datasheet.ciiva.com/16742/rc0805-16742265.pdf?src-supplier=Future+Electronics; ComponentLink5Description: https://datasheet.ciiva.com/16742/rc0805-16742265.pdf?src-supplier=Future+Electronics
footprint Resistor_0805
pins: 1, 2

## RES 49.9K
designator R?, comment 49.9K
SMD Chip Resistor, 49.9 kOhm, ï¿½ 1%, 125 mW, 0805 [2012 Metric], Thick Film, General Purpose; Manufacturer: Yageo; Manufacturer Part Number: RC0805FR-0749K9L; Voltage Rating (DC): 150V; Supplier: Digikey; Supplier Part Number: 311-49.9KCRCT-ND; RoHS: Yes; Category: Chip SMD Resistors; Stock: 1828331; Pricing: 1=0,1, 10=0,009, 100=0,0087, 1000=0,00816, 2500=0,00686 (USD); Lead Free: 5697LeadFree; ComponentLink1URL: https://datasheet.ciiva.com/11808/0900766b8106beab-11808911.pdf?src-supplier=Rs; ComponentLink1Description: https://datasheet.ciiva.com/11808/0900766b8106beab-11808911.pdf?src-supplier=Rs; ComponentLink2URL: https://datasheet.ciiva.com/12656/rc0805-12656764.pdf?src-supplier=Mouser; ComponentLink2Description: https://datasheet.ciiva.com/12656/rc0805-12656764.pdf?src-supplier=Mouser; ComponentLink3URL: https://datasheet.ciiva.com/2456/pyu-r-int-thick-7-2456990.pdf?src-supplier=Digikey; ComponentLink3Description: https://datasheet.ciiva.com/2456/pyu-r-int-thick-7-2456990.pdf?src-supplier=Digikey; ComponentLink4URL: https://datasheet.ciiva.com/2456/pyu-r-int-thick-7-2456991.pdf?src-supplier=Digikey; ComponentLink4Description: https://datasheet.ciiva.com/2456/pyu-r-int-thick-7-2456991.pdf?src-supplier=Digikey; ComponentLink5URL: https://datasheet.ciiva.com/2456/pyu-r-int-thick-7-2456992.pdf?src-supplier=Digikey; ComponentLink5Description: https://datasheet.ciiva.com/2456/pyu-r-int-thick-7-2456992.pdf?src-supplier=Digikey
footprint Resistor_0805
pins: 1, 2

## RES 100R 0805
designator R?, comment 100R
SMD Chip Resistor, 100 Ohm, ï¿½ 1%, 125 mW, 0805 [2012 Metric], Thick Film, General Purpose; Manufacturer: Yageo; Manufacturer Part Number: RC0805FR-07100RL; Temperature Coefficient: 100ppm/°C; Power Rating: 125mW; Voltage Rating: 150V; Application(s): HIGH RELIABILITY; Supplier: Arrow Electronics; Supplier Part Number: RC0805FR-07100RL; RoHS: Yes; Category: Chip SMD Resistors; Stock: 2025000; Pricing: 5000=0,0042, 10000=0,0038, 15000=0,0036, 25000=0,0034 (USD); Case Code (Imperial): 0805; Case Code (Metric): 2012; Weight: 0.000917oz; Min Operating Temperature: -55°C; Max Operating Temperature: 155°C; Value: 100R; Tolerance: 1%; Packaging: Cut Tape; Package Quantity: 5000; Termination: SMD/SMT; Type: General Purpose; Series: RC; Technology: THICK FILM; Voltage Rating (AC): 150V; Length: 2mm; Width: 1.25mm; Height: 0.5mm; Lead Free: Lead Free; Reach SVHC Compliant: 4187SVHC; RoHS Compliant: Yes; ComponentLink1URL: https://datasheet.ciiva.com/11808/0900766b8106beab-11808877.pdf?src-supplier=Rs; ComponentLink1Description: https://datasheet.ciiva.com/11808/0900766b8106beab-11808877.pdf?src-supplier=Rs; ComponentLink2URL: https://datasheet.ciiva.com/7941/1697719-7941680.pdf?src-supplier=Element14; ComponentLink2Description: https://datasheet.ciiva.com/7941/1697719-7941680.pdf?src-supplier=Element14; ComponentLink3URL: https://datasheet.ciiva.com/7941/1686128-7941679.pdf?src-supplier=Element14; ComponentLink3Description: https://datasheet.ciiva.com/7941/1686128-7941679.pdf?src-supplier=Element14; ComponentLink4URL: https://datasheet.ciiva.com/7660/38627-7660797.pdf?src-supplier=Element14; ComponentLink4Description: https://datasheet.ciiva.com/7660/38627-7660797.pdf?src-supplier=Element14; ComponentLink5URL: https://datasheet.ciiva.com/22747/444164-22747535.pdf?src-supplier=Element14; ComponentLink5Description: https://datasheet.ciiva.com/22747/444164-22747535.pdf?src-supplier=Element14; ComponentLink6URL: https://datasheet.ciiva.com/46447/444164-46447562.pdf?src-supplier=Element14; ComponentLink6Description: https://datasheet.ciiva.com/46447/444164-46447562.pdf?src-supplier=Element14; ComponentLink7URL: https://datasheet.ciiva.com/2456/pyu-r-int-thick-7-2456988.pdf?src-supplier=Digikey; ComponentLink7Description: https://datasheet.ciiva.com/2456/pyu-r-int-thick-7-2456988.pdf?src-supplier=Digikey; ComponentLink8URL: https://datasheet.ciiva.com/2456/pyu-r-int-thick-7-2456989.pdf?src-supplier=Digikey; ComponentLink8Description: https://datasheet.ciiva.com/2456/pyu-r-int-thick-7-2456989.pdf?src-supplier=Digikey; ComponentLink9URL: https://datasheet.ciiva.com/2456/pyu-r-int-thick-7-2456987.pdf?src-supplier=Digikey; ComponentLink9Description: https://datasheet.ciiva.com/2456/pyu-r-int-thick-7-2456987.pdf?src-supplier=Digikey; ComponentLink10URL: https://datasheet.ciiva.com/17082/rc0805-17082697.pdf?src-supplier=Future+Electronics; ComponentLink10Description: https://datasheet.ciiva.com/17082/rc0805-17082697.pdf?src-supplier=Future+Electronics
footprint Resistor_0805
pins: 1, 2

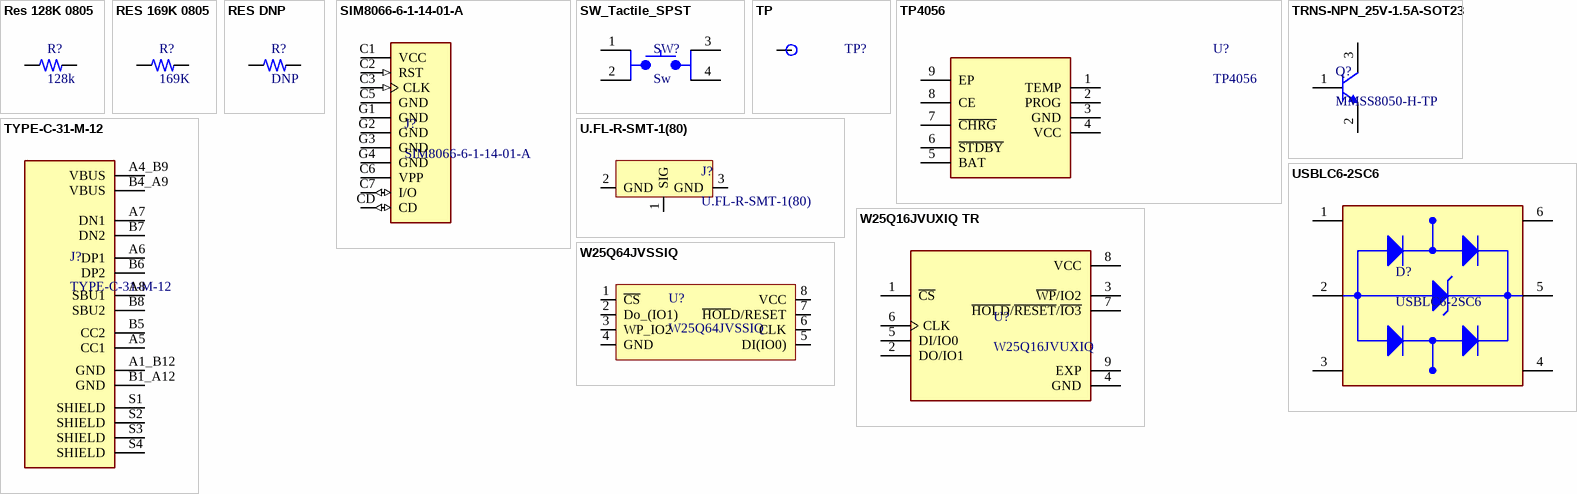
[diagram p2: symbols Res 128K 0805 to W25Q64JVSSIQ]

## Res 128K 0805
designator R?, comment 128k
SMD Chip Resistor, 127 kOhm, ± 1%, 125 mW, 0805 [2012 Metric], Thick Film, General Purpose; Manufacturer: Yageo; Manufacturer Part Number: RC0805FR-07127KL; Supplier: Digikey; Supplier Part Number: 311-127KCRCT-ND; RoHS: Yes; Category: Chip SMD Resistors; Stock: 77646; Pricing: 1=0,1, 10=0,016, 100=0,0112, 1000=0,00918 (USD); ComponentLink1URL: https://datasheet.ciiva.com/2509/pyu-r-int-thick-7-2509456.pdf?src-supplier=Digikey; ComponentLink1Description: https://datasheet.ciiva.com/2509/pyu-r-int-thick-7-2509456.pdf?src-supplier=Digikey; ComponentLink2URL: https://datasheet.ciiva.com/2509/pyu-r-int-thick-7-2509457.pdf?src-supplier=Digikey; ComponentLink2Description: https://datasheet.ciiva.com/2509/pyu-r-int-thick-7-2509457.pdf?src-supplier=Digikey; ComponentLink3URL: https://datasheet.ciiva.com/2509/pyu-r-int-thick-7-2509458.pdf?src-supplier=Digikey; ComponentLink3Description: https://datasheet.ciiva.com/2509/pyu-r-int-thick-7-2509458.pdf?src-supplier=Digikey
footprint Resistor_0805
pins: 1, 2

## RES 169K 0805
designator R?, comment 169K
SMD Chip Resistor, 169 kOhm, ± 1%, 125 mW, 0805 [2012 Metric], Thick Film, General Purpose; Manufacturer: Yageo; Manufacturer Part Number: RC0805FR-07169KL; Voltage Rating (DC): 150V; Supplier: Digikey; Supplier Part Number: 311-169KCRCT-ND; RoHS: Yes; Category: Chip SMD Resistors; Stock: 16091; Pricing: 1=0,1, 10=0,011, 100=0,0082, 1000=0,00714 (USD); Lead Free: 5697LeadFree; ComponentLink1URL: https://datasheet.ciiva.com/17424/rc0805-17424504.pdf?src-supplier=Future+Electronics; ComponentLink1Description: https://datasheet.ciiva.com/17424/rc0805-17424504.pdf?src-supplier=Future+Electronics
footprint Resistor_0805
pins: 1, 2

## RES DNP
designator R?, comment DNP
footprint Resistor_0805
pins: 1, 2

## SIM8066-6-1-14-01-A
designator J?
SIM8066 Series 6 Position 1.44 mm Pitch Push Push Type Nano SIM Card Connector; Manufacturer: Global Connector Technology; Supplier: Farnell; Supplier Part Number: 3772945; Manufacturer Part Number: SIM8066-6-1-14-01-A; RoHS: No; Category: Connectors; Stock: 12609; Pricing: 1=1,11, 37=0,904, 112=0,859, 300=0,813, 750=0,677 (EUR); Pins: 6; ComponentLink1URL: https://datasheet.octopart.com/SIM8066-6-1-14-01-A-Global-Connector-Technology-datasheet-155811920.pdf?src-supplier=Future+Electronics; ComponentLink1Description: https://datasheet.octopart.com/SIM8066-6-1-14-01-A-Global-Connector-Technology-datasheet-155811920.pdf?src-supplier=Future+Electronics
footprint SIM
pins: C1 VCC (power), C2 RST (in), C3 CLK (in), C5 GND (power), C6 VPP (power), C7 I/O (io), CD (io), G1 GND (power), G2 GND (power), G3 GND (power), G4 GND (power)

## SW_Tactile_SPST
designator SW?, comment Sw
TL3305A Series SPST 12 V 4.5 x 4.5 mm 260 gf Top Actuated SMT Tactile Switch; Manufacturer: E-Switch; Manufacturer Part Number: TL3305AF260QG; Mechanical Life: 200000Cycles; Illumination Type: Non-Illuminated; Operating Force: 260gf; Switch Travel: 0.2mm; Switch Function: Off-Mom; Actuator Type: Standard; Supplier: Digikey; Supplier Part Number: EG5353CT-ND; RoHS: No; Category: Tactile Switches; Stock: 97166; Pricing: 1=0,2, 10=0,176, 25=0,1664, 100=0,153, 250=0,14456, 500=0,1385, 1000=0,13264 (USD); Mounting Technology: Surface Mount; Min Operating Temperature: -20°C; Max Operating Temperature: 70°C; Packaging: Cut Tape; Termination: Gull Wing; Throw Configuration: SPST; Series: TL3305; Lead Free: Lead Free; ComponentLink1URL: http://www.farnell.com/datasheets/2554191.pdf?src-supplier=Farnell; ComponentLink1Description: http://www.farnell.com/datasheets/2554191.pdf?src-supplier=Farnell; ComponentLink2URL: http://www.farnell.com/datasheets/2554191.pdf?src-supplier=Newark; ComponentLink2Description: http://www.farnell.com/datasheets/2554191.pdf?src-supplier=Newark; ComponentLink3URL: http://spec_sheets.e-switch.com/specs/P010471.pdf?src-supplier=Mouser; ComponentLink3Description: http://spec_sheets.e-switch.com/specs/P010471.pdf?src-supplier=Mouser; ComponentLink4URL: http://www.farnell.com/datasheets/2554191.pdf?src-supplier=Element14; ComponentLink4Description: http://www.farnell.com/datasheets/2554191.pdf?src-supplier=Element14; ComponentLink5URL: http://spec_sheets.e-switch.com/specs/P010471.pdf?src-supplier=Digikey; ComponentLink5Description: http://spec_sheets.e-switch.com/specs/P010471.pdf?src-supplier=Digikey; ComponentLink6URL: http://spec_sheets.e-switch.com/specs/P010471.pdf?src-supplier=NAC+Semi; ComponentLink6Description: http://spec_sheets.e-switch.com/specs/P010471.pdf?src-supplier=NAC+Semi
footprint SW_Tactile_SMD
pins: 1, 2, 3, 4

## TP
designator TP?
footprint Test_Point
pins: 1

## TP4056
designator U?
ESOP-8 Battery Management ICs ROHS; Manufacturer: TPOWER; Supplier: LCSC; Supplier Part Number: C382139; Manufacturer Part Number: TP4056; RoHS: No; Category: LDO; Stock: 26595; Pricing: 5=0,0918, 50=0,0745, 150=0,0649, 500=0,0591, 4000=0,0514, 8000=0,0507 (USD)
footprint ESOP-8
pins: 1 TEMP, 2 PROG, 3 GND, 4 VCC, 5 BAT, 6 ~{STDBY}, 7 ~{CHRG}, 8 CE, 9 EP

## TRNS-NPN_25V-1.5A-SOT23
designator Q?, comment MMSS8050-H-TP
Bipolar (BJT) Transistor NPN 25V 1.5A 100MHz 625mW Surface Mount SOT-23; Manufacturer: MCC; Alternate Part Number-1: NA; Manufacturer Part Number: MMSS8050-H-TP; Case/Package: SOT-23; Supplier-1: MOUSER; Supplier Part Number-1: MMSS8050-H-TP
footprint SOT_23_3
pins: 1 B, 2 E, 3 C

## TYPE-C-31-M-12
designator J?
Manufacturer: HRO Electronics; Supplier: LCSC; Supplier Part Number: C165948; Manufacturer Part Number: TYPE-C-31-M-12; RoHS: No; Category: LDO; Stock: 137245; Pricing: 5=0,171, 50=0,1346, 150=0,1168, 1000=0,0966, 2000=0,0923, 5000=0,0896 (USD)
footprint TYPE-C-31-M-12
pins: A1_B12 GND, A4_B9 VBUS, A5 CC1, A6 DP1, A7 DN1, A8 SBU1, B1_A12 GND, B4_A9 VBUS, B5 CC2, B6 DP2, B7 DN2, B8 SBU2, S1 SHIELD, S2 SHIELD, S3 SHIELD, S4 SHIELD